# EAGLE library part DRV8834 (library ICs)
Dual bridge stepper or DC motor driver.
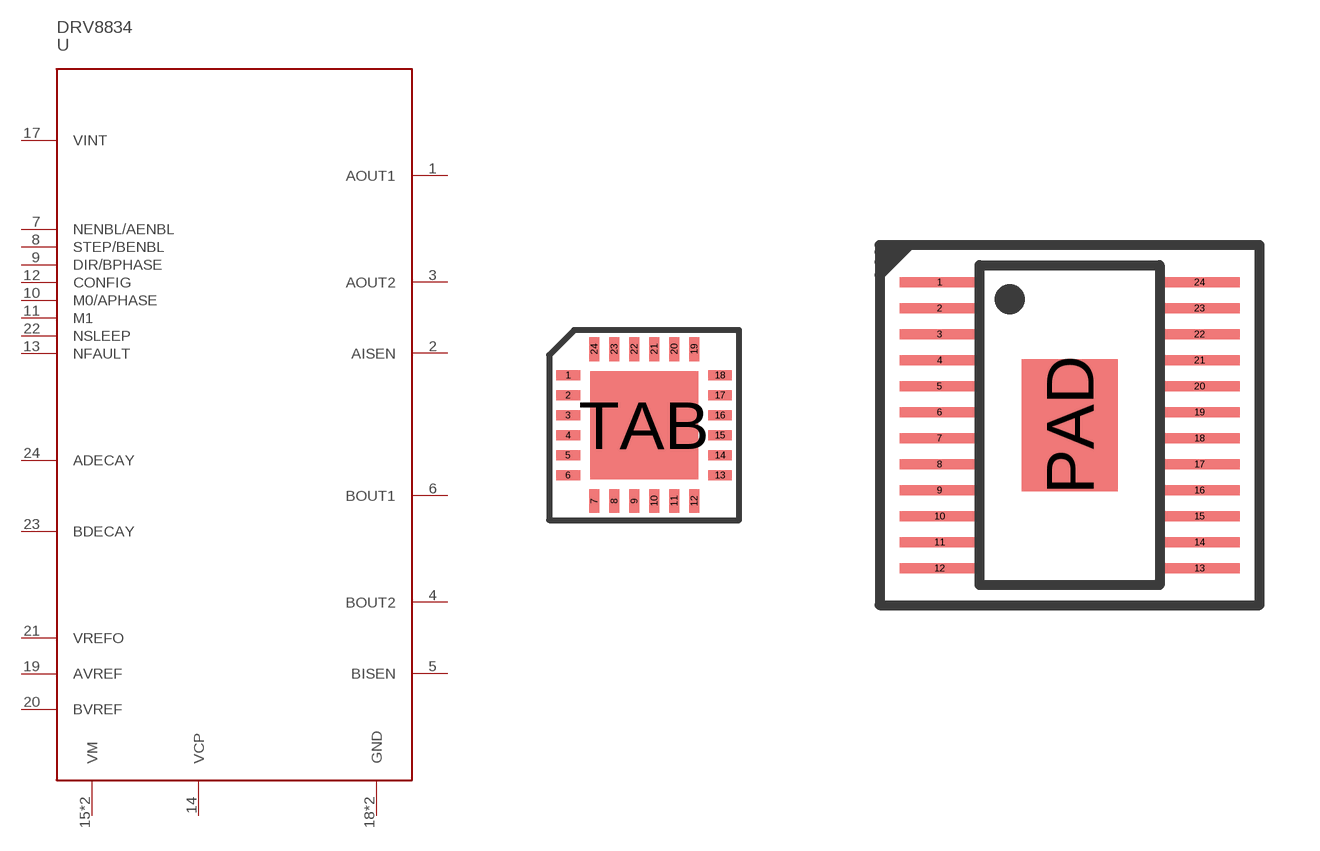
[diagram p44: symbol with the pads of QFN24; footprints QFN24, HTSSOP24]

Designator prefix U

## DRV8834RGE (FARNELL: 2144264)  [QFN24]
1  AOUT1
2  AISEN
3  AOUT2
4  BOUT2
5  BISEN
6  BOUT1
7  NENBL/AENBL
8  STEP/BENBL
9  DIR/BPHASE
10  M0/APHASE
11  M1
12  CONFIG
13  NFAULT
14  VCP
15  VM
16  VM
17  VINT
18  GND
19  AVREF
20  BVREF
21  VREFO
22  NSLEEP
23  BDECAY
24  ADECAY
TAB  GND

## DRV8834PWP (FARNELL: 2115234)  [HTSSOP24]
1  NSLEEP
2  BDECAY
3  ADECAY
4  AOUT1
5  AISEN
6  AOUT2
7  BOUT2
8  BISEN
9  BOUT1
10  NENBL/AENBL
11  STEP/BENBL
12  DIR/BPHASE
13  M0/APHASE
14  M1
15  CONFIG
16  NFAULT
17  VCP
18  VM
19  VM
20  VINT
21  GND
22  AVREF
23  BVREF
24  VREFO
PAD  GND

## Footprint QFN24 (pad centres in mm)
smd 0.6 x 0.25: 1 -1.9,1.25; 2 -1.9,0.75; 3 -1.9,0.25; 4 -1.9,-0.25; 5 -1.9,-0.75; 6 -1.9,-1.25; 13 1.9,-1.25; 14 1.9,-0.75; 15 1.9,-0.25; 16 1.9,0.25; 17 1.9,0.75; 18 1.9,1.25
smd 0.25 x 0.6: 7 -1.25,-1.9; 8 -0.75,-1.9; 9 -0.25,-1.9; 10 0.25,-1.9; 11 0.75,-1.9; 12 1.25,-1.9; 19 1.25,1.9; 20 0.75,1.9; 21 0.25,1.9; 22 -0.25,1.9; 23 -0.75,1.9; 24 -1.25,1.9
smd 2.7 x 2.7: TAB 0,0

## Footprint HTSSOP24 (pad centres in mm)
smd 2 x 0.25: 1 -3.25,3.575; 2 -3.25,2.925; 3 -3.25,2.275; 4 -3.25,1.625; 5 -3.25,0.975; 6 -3.25,0.325; 7 -3.25,-0.325; 8 -3.25,-0.975; 9 -3.25,-1.625; 10 -3.25,-2.275; 11 -3.25,-2.925; 12 -3.25,-3.575; 13 3.25,-3.575; 14 3.25,-2.925; 15 3.25,-2.275; 16 3.25,-1.625; 17 3.25,-0.975; 18 3.25,-0.325; 19 3.25,0.325; 20 3.25,0.975; 21 3.25,1.625; 22 3.25,2.275; 23 3.25,2.925; 24 3.25,3.575
smd 2.4 x 3.3: PAD 0,0